# Altium integrated library LFB182G45CGFD436.IntLib: 1 symbol
Pins are listed as number, name and electrical type; pins without a type are passive.

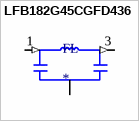
[diagram p0: symbol LFB182G45CGFD436]

## LFB182G45CGFD436
designator FL
RF Filter Band Pass 2450MHz 2400MHz to 2500MHz 2.8dB 50Ohm SMD 6Pin 0603; MP: LFB182G45CGFD436; MF: Murata; Availability: Unavailable; Price: None; Package: 0603 Murata Electronics; Value: *; SnapEDA_Link: https://www.snapeda.com/parts/LFB182G45CGFD436/Murata/view-part/2721840/?ref=snap
footprint FIL_LFB182G45CGFD436
pins: 1 IN (in), 2 GND (power), 2_1 GND (power), 3 OUT (out)